# Altium integrated library LM4040B25IDBZR.IntLib: 1 symbol
Pins are listed as number, name and electrical type; pins without a type are passive.

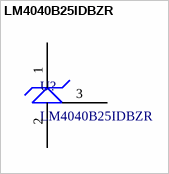
[diagram p0: symbol LM4040B25IDBZR]

## LM4040B25IDBZR
designator U?
Precision micropower reference, TI
footprint SOT95P237X112-3N (SOT23, 3-Leads, Body 2.92x2.37mm, Pitch 0.95mm, IPC Medium Density)
pins: 1, 2, 3